# Altium footprint library CN_USB_A_Tyco_1734366_1.PcbLib: 1 footprints
Each footprint in its own frame and in the unit in brackets; x right, y up, seen from the top. Pads: shape width x height; smd on the part's side, far side on the other; paste and mask are expansions set on the pad; w line width, h text height; cw(c..) or ccw(c..) is an arc to the next point about the centre after c.
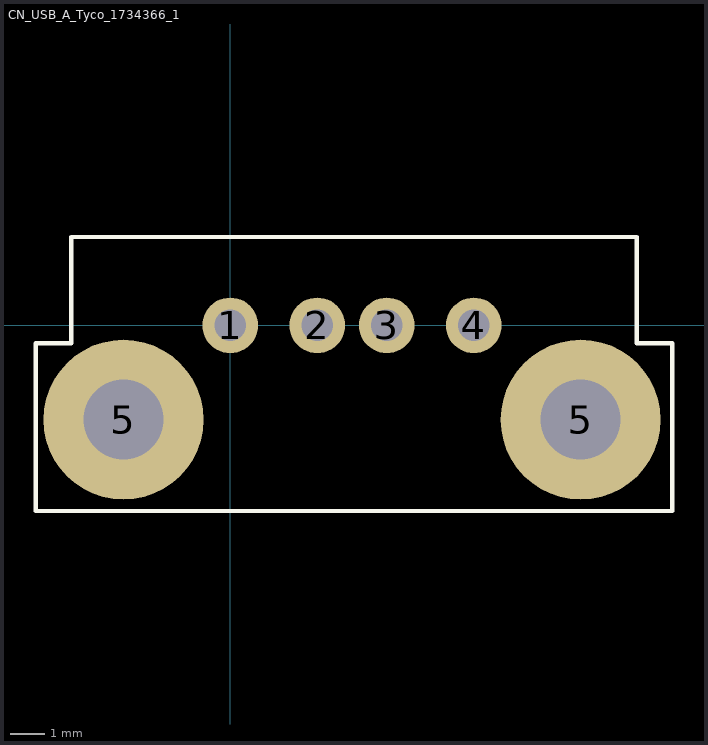
[diagram p0: the footprint, top view; thin cyan lines are the x and y axes]

## CN_USB_A_Tyco_1734366_1 [mm] "USB A vertical Tyco 1734366-1"
pads (6):
  round 1.6 hole 0.9: 1(0,0) 2(2.5,0) 3(4.5,0) 4(7,0)
  round 4.6 hole 2.3: 5(-3.07,-2.71) 5(10.07,-2.71)
Top Overlay:
  lines w0.127: -5.588,-5.334 12.7,-5.334 12.7,-0.508 11.684,-0.508 11.684,2.54 -4.572,2.54 -4.572,-0.508 -5.588,-0.508 -5.588,-5.334
3D body: height 56.83, standoff 5.42, extent -4.428,-5.334 11.032,2.666
3D body: height 15, standoff -3.93, extent -4.4,-4.82 11.399,2.3